# EAGLE library part TAS6424-Q1 (library TAS6424)
TAS6424-Q1 75-W Class-D Audio Amplifier 2-MHz Digital Input 4-Channel Automotive Class-D Audio Amplifier With Load-Dump Protection and I2C Diagnostics datasheet: http://www.ti.com/lit/ds/symlink/tas6424-q1.pdf
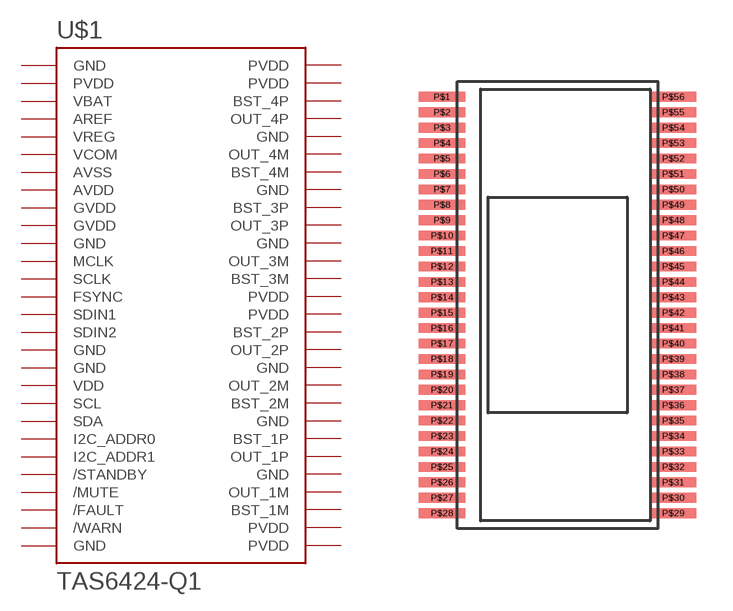
[diagram p0: symbol with the pads of HSSOP56; footprint HSSOP56]

Designator prefix U$1

## TAS6424-Q1  [HSSOP56]
P$1  GND  sup
P$2  PVDD
P$3  VBAT
P$4  AREF
P$5  VREG
P$6  VCOM
P$7  AVSS
P$8  AVDD
P$9  GVDD
P$10  GVDD
P$11  GND  sup
P$12  MCLK
P$13  SCLK
P$14  FSYNC
P$15  SDIN1
P$16  SDIN2
P$17  GND  sup
P$18  GND  sup
P$19  VDD
P$20  SCL
P$21  SDA
P$22  I2C_ADDR0
P$23  I2C_ADDR1
P$24  /STANDBY
P$25  /MUTE
P$26  /FAULT
P$27  /WARN
P$28  GND  sup
P$29  PVDD
P$30  PVDD
P$31  BST_1M
P$32  OUT_1M
P$33  GND  sup
P$34  OUT_1P
P$35  BST_1P
P$36  GND  sup
P$37  BST_2M
P$38  OUT_2M
P$39  GND  sup
P$40  OUT_2P
P$41  BST_2P
P$42  PVDD
P$43  PVDD
P$44  BST_3M
P$45  OUT_3M
P$46  GND  sup
P$47  OUT_3P
P$48  BST_3P
P$49  GND  sup
P$50  BST_4M
P$51  OUT_4M
P$52  GND  sup
P$53  OUT_4P
P$54  BST_4P
P$55  PVDD
P$56  PVDD

## Footprint HSSOP56 (pad centres in mm)
smd 1.9 x 0.4: P$1 -4.763,8.572; P$2 -4.763,7.938; P$3 -4.763,7.303; P$4 -4.763,6.668; P$5 -4.763,6.032; P$6 -4.763,5.397; P$7 -4.763,4.763; P$8 -4.763,4.128; P$9 -4.763,3.493; P$10 -4.763,2.857; P$11 -4.763,2.223; P$12 -4.763,1.587; P$13 -4.763,0.953; P$14 -4.763,0.318; P$15 -4.763,-0.318; P$16 -4.763,-0.953; P$17 -4.763,-1.587; P$18 -4.763,-2.223; P$19 -4.763,-2.857; P$20 -4.763,-3.493; P$21 -4.763,-4.128; P$22 -4.763,-4.763; P$23 -4.763,-5.397; P$24 -4.763,-6.032; P$25 -4.763,-6.668; P$26 -4.763,-7.303; P$27 -4.763,-7.938; P$28 -4.763,-8.572; P$29 4.763,-8.572; P$30 4.763,-7.938; P$31 4.763,-7.303; P$32 4.763,-6.668; P$33 4.763,-6.032; P$34 4.763,-5.397; P$35 4.763,-4.763; P$36 4.763,-4.128; P$37 4.763,-3.493; P$38 4.763,-2.857; P$39 4.763,-2.223; P$40 4.763,-1.587; P$41 4.763,-0.953; P$42 4.763,-0.318; P$43 4.763,0.318; P$44 4.763,0.953; P$45 4.763,1.587; P$46 4.763,2.223; P$47 4.763,2.857; P$48 4.763,3.493; P$49 4.763,4.128; P$50 4.763,4.763; P$51 4.763,5.397; P$52 4.763,6.032; P$53 4.763,6.668; P$54 4.763,7.303; P$55 4.763,7.938; P$56 4.763,8.572